# Altium footprint library BRK7010.PcbLib: 9 footprints
Each footprint in its own frame and in the unit in brackets; x right, y up, seen from the top. Pads: shape width x height; smd on the part's side, far side on the other; paste and mask are expansions set on the pad; w line width, h text height; cw(c..) or ccw(c..) is an arc to the next point about the centre after c.
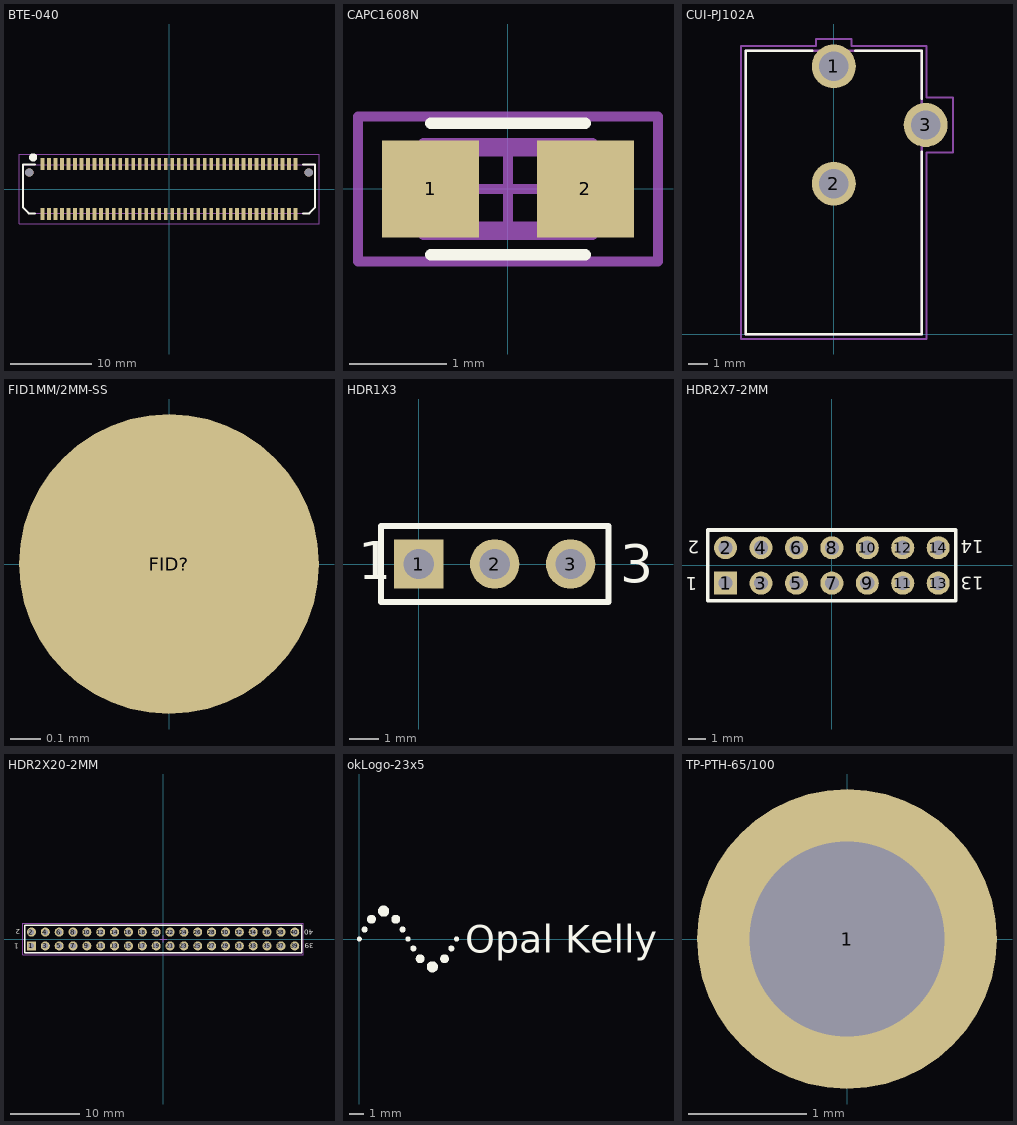
[diagram p0: the footprints below, top view; thin cyan lines are the x and y axes]

## BTE-040 [mm]
pads (82):
  rect 0.46x1.45 smd: 1(-15.6,3.085) 2(-15.6,-3.085) 3(-14.8,3.085) 4(-14.8,-3.085) 5(-14,3.085) 6(-14,-3.085) 7(-13.2,3.085) 8(-13.2,-3.085) 9(-12.4,3.085) 10(-12.4,-3.085) 11(-11.6,3.085) 12(-11.6,-3.085) 13(-10.8,3.085) 14(-10.8,-3.085) 15(-10,3.085) 16(-10,-3.085) 17(-9.2,3.085) 18(-9.2,-3.085) 19(-8.4,3.085) 20(-8.4,-3.085) 21(-7.6,3.085) 22(-7.6,-3.085) 23(-6.8,3.085) 24(-6.8,-3.085) 25(-6,3.085) 26(-6,-3.085) 27(-5.2,3.085) 28(-5.2,-3.085) 29(-4.4,3.085) 30(-4.4,-3.085) 31(-3.6,3.085) 32(-3.6,-3.085) 33(-2.8,3.085) 34(-2.8,-3.085) 35(-2,3.085) 36(-2,-3.085) 37(-1.2,3.085) 38(-1.2,-3.085) 39(-0.4,3.085) 40(-0.4,-3.085) 41(0.4,3.085) 42(0.4,-3.085) 43(1.2,3.085) 44(1.2,-3.085) 45(2,3.085) 46(2,-3.085) 47(2.8,3.085) 48(2.8,-3.085) 49(3.6,3.085) 50(3.6,-3.085) 51(4.4,3.085) 52(4.4,-3.085) 53(5.2,3.085) 54(5.2,-3.085) 55(6,3.085) 56(6,-3.085) 57(6.8,3.085) 58(6.8,-3.085) 59(7.6,3.085) 60(7.6,-3.085) 61(8.4,3.085) 62(8.4,-3.085) 63(9.2,3.085) 64(9.2,-3.085) 65(10,3.085) 66(10,-3.085) 67(10.8,3.085) 68(10.8,-3.085) 69(11.6,3.085) 70(11.6,-3.085) 71(12.4,3.085) 72(12.4,-3.085) 73(13.2,3.085) 74(13.2,-3.085) 75(14,3.085) 76(14,-3.085) 77(14.8,3.085) 78(14.8,-3.085) 79(15.6,3.085) 80(15.6,-3.085)
  round 1.02 hole 1.02: 81(-17.235,2.035) 82(17.235,2.035)
Top Overlay:
  circle w0.5: c-16.75,3.9 r0.25
  lines w0.254: -16.5,-3 -17.3,-3 -18,-2.3 -18,3 -16.5,3 ; 16.5,-3 17.3,-3 18,-2.3 18,3 16.5,3
Mechanical 15:
  lines w0.12: -18.5,-4.3 -18.5,4.3 18.5,4.3 18.5,-4.3 -18.5,-4.3
Mechanical 29:
  lines w0.127: -18,-2.25 -18,3 18,3 18,-2.25 17.25,-3 -17.25,-3 -18,-2.25
  text ".Designator" at -3.666,-0.494 h1.27
3D body "BTE-040-01-F-D-A.stp": height 4.27, standoff -0.75, extent -18.034,-3.556 17.971,3.556

## CAPC1608N [mm]
pads (2):
  rect 1x1 smd: 1(-0.8,0) 2(0.8,0)
Top Overlay:
  lines w0.12: -0.8,-0.68 0.8,-0.68 ; -0.8,0.68 0.8,0.68
Mechanical 13:
  lines w0.1: -0.875,-0.475 -0.875,0.475 0.875,0.475 0.875,-0.475 -0.875,-0.475
Mechanical 15:
  lines w0.1: -0.475,0 0.475,0 ; 0,-0.475 0,0.475 ; -1.55,-0.75 -1.55,0.75 1.55,0.75 1.55,-0.75 -1.55,-0.75
Mechanical 29:
  lines w0.127: -0.8,-0.4 0.8,-0.4 0.8,0.4 -0.8,0.4 -0.8,-0.4
  text ".Designator" at -0.55,-0.15 h0.3
3D body: height 0.85, standoff 0, extent -0.875,-0.475 0.875,0.475

## CUI-PJ102A [mm]
pads (3):
  round 2.25 hole 1.5: 1(0,13.7) 2(0,7.7) 3(4.7,10.7)
Top Overlay:
  lines w0.12: -1.1,14.5 -4.5,14.5 -4.5,0 4.5,0 4.5,9.33 ; 1.1,14.5 4.5,14.5 4.5,12.04
Mechanical 15:
  lines w0.1: -4.75,-0.25 4.75,-0.25 4.75,9.3 6.1,9.3 6.1,12.1 4.75,12.1 4.75,14.75 0.9,14.75 0.9,15.1 -0.9,15.1 -0.9,14.75 -4.75,14.75 -4.75,-0.25
Mechanical 29:
  lines w0.127: -4.5,0 4.5,0 4.5,14.5 -4.5,14.5 -4.5,0
  text ".Designator" at -3,7 h1.27

## FID1MM/2MM-SS [mm]
pads (1):
  round 1 smd paste-0.5 mask+0.5: FID?(0,0)

## HDR1X3 [mil]
pads (3):
  rect 65x65 hole 40: 1(0,0)
  round 65 hole 40: 2(100,0) 3(200,0)
Top Overlay:
  lines w7.87: -50,-50 -50,50 250,50 250,-50 -50,-50
  text "1" at -80,-20 h50
  text "3" at 265,-25 h50
Mechanical 29:
  lines w5: -50,-50 -50,50 250,50 250,-50 -50,-50
  text ".Designator" at 13,71 h40

## HDR2X7-2MM [mm]
pads (14):
  rect 1.3x1.3 hole 0.8: 1(-6,-1)
  round 1.3 hole 0.8: 2(-6,1) 3(-4,-1) 4(-4,1) 5(-2,-1) 6(-2,1) 7(0,-1) 8(0,1) 9(2,-1) 10(2,1) 11(4,-1) 12(4,1) 13(6,-1) 14(6,1)
Top Overlay:
  lines w0.2: -7,-2 -7,2 7,2 7,-2 -7,-2
  text "14" at 8.57,1.412 h0.75
  text "13" at 8.57,-0.645 h0.75
  text "2" at -7.483,1.387 h0.75
  text "1" at -7.61,-0.671 h0.75
Mechanical 29:
  lines w0.1: -7,-2 -7,2 7,2 7,-2 -7,-2
  text ".Designator" at -3.95,-0.5 h1.27

## HDR2X20-2MM [mm]
pads (40):
  rect 1.3x1.3 hole 0.8: 1(-19,-1)
  round 1.3 hole 0.8: 2(-19,1) 3(-17,-1) 4(-17,1) 5(-15,-1) 6(-15,1) 7(-13,-1) 8(-13,1) 9(-11,-1) 10(-11,1) 11(-9,-1) 12(-9,1) 13(-7,-1) 14(-7,1) 15(-5,-1) 16(-5,1) 17(-3,-1) 18(-3,1) 19(-1,-1) 20(-1,1) 21(1,-1) 22(1,1) 23(3,-1) 24(3,1) 25(5,-1) 26(5,1) 27(7,-1) 28(7,1) 29(9,-1) 30(9,1) 31(11,-1) 32(11,1) 33(13,-1) 34(13,1) 35(15,-1) 36(15,1) 37(17,-1) 38(17,1) 39(19,-1) 40(19,1)
Top Overlay:
  lines w0.2: -20,-2 20,-2 20,2 -20,2 -20,-2
  text "1" at -20.796,-0.711 h0.75
  text "2" at -20.643,1.372 h0.75
  text "39" at 21.749,-0.584 h0.75
  text "40" at 21.699,1.346 h0.75
Mechanical 15:
  lines w0.1: -0.5,0 0.5,0 ; 0,-0.5 0,0.5 ; -20.25,-2.25 20.25,-2.25 20.25,2.25 -20.25,2.25 -20.25,-2.25
Mechanical 29:
  lines w0.1: -20,-2 -20,2 20,2 20,-2 -20,-2
  text ".Designator" at -3.95,-0.5 h1.27

## okLogo-23x5 [mm]
Top Overlay:
  circle w0.21: c6.301,-0.648 r0.105
  circle w0.21: c3.7,-0.648 r0.105
  circle w0.21: c2.967,0.648 r0.105
  circle w0.305: c5.834,-1.353 r0.152
  circle w0.305: c4.167,-1.353 r0.152
  circle w0.305: c2.5,1.353 r0.152
  circle w0.381: c5.001,-1.905 r0.191
  circle w0.171: c6.667,0 r0.086
  circle w0.171: c3.334,0 r0.086
  circle w0.381: c1.667,1.905 r0.191
  circle w0.305: c0.833,1.353 r0.152
  circle w0.21: c0.367,0.648 r0.105
  circle w0.171: c0,0 r0.086
  text "Opal Kelly" at 7.239,-0.953 h1.91

## TP-PTH-65/100 [mil]
pads (1):
  round 100 hole 65: 1(0,0)